# EAGLE library part OPAMP-LMP7721 (library openct)
TI LMP7721 Precision Amplifier (3-Femtoamp Input Bias)
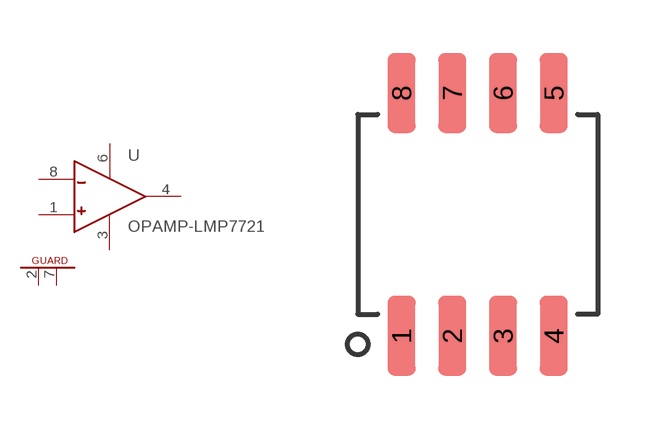
[diagram p1: symbol with the pads of SOIC-8; footprint SOIC-8]

Designator prefix U

## OPAMP-LMP7721  [SOIC-8]
1  +
2  G1
3  GND
4  OUT
6  VCC
7  G2
8  -

## Footprint SOIC-8 (pad centres in mm)
smd 0.7 x 2: 1 -1.905,-3.04; 2 -0.635,-3.04; 3 0.635,-3.04; 4 1.905,-3.04; 5 1.905,3.04; 6 0.635,3.04; 7 -0.635,3.04; 8 -1.905,3.04